# EAGLE library part STPS1045 (library st-microelectronics)
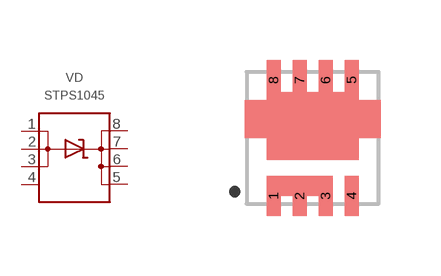
[diagram p13: symbol with the pads of FLAT-8L; footprint FLAT-8L]

Designator prefix VD

## STPS1045DEE-TR  [FLAT-8L]
1  A1  pas
2  A2  pas
3  A3  pas
4  NC  nc
5  C4  pas
6  C3  pas
7  C2  pas
8  C1  pas

## Footprint FLAT-8L (pad centres in mm)
smd 0.35 x 1: 1 -0.975,-1.45; 2 -0.325,-1.45; 3 0.325,-1.45; 4 0.975,-1.45; 5 0.975,1.45; 6 0.325,1.45; 7 -0.325,1.45; 8 -0.975,1.45